# Altium footprint library 5055750771.PcbLib: 1 footprints
Each footprint in its own frame and in the unit in brackets; x right, y up, seen from the top. Pads: shape width x height; smd on the part's side, far side on the other; paste and mask are expansions set on the pad; w line width, h text height; cw(c..) or ccw(c..) is an arc to the next point about the centre after c.
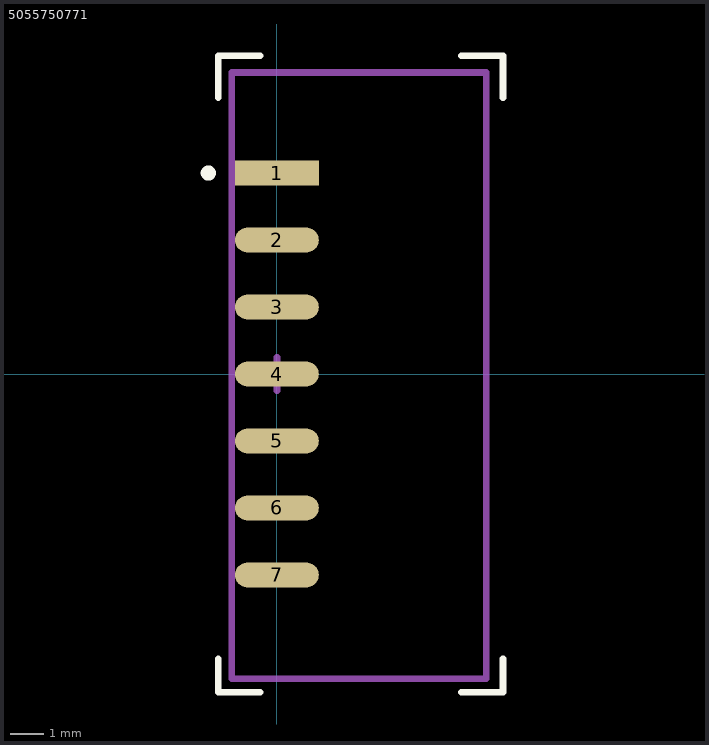
[diagram p0: the footprint, top view; thin cyan lines are the x and y axes]

## 5055750771 [mm]
pads (7):
  rect 2.5x0.75 smd: 1(0,6)
  oval 2.5x0.75 smd: 2(0,4) 3(0,2) 4(0,0) 5(0,-2) 6(0,-4) 7(0,-6)
Top Overlay:
  circle w0.254: c-2.05,6 r0.1
  lines w0.2: -1.75,-8.5 -1.75,-9.5 -0.5,-9.5 ; -1.75,8.25 -1.75,9.5 -0.5,9.5 ; 5.5,-9.5 6.75,-9.5 6.75,-8.5 ; 5.5,9.5 6.75,9.5 6.75,8.25
Mechanical 13:
  lines w0.2: -1.35,-9.1 6.25,-9.1 6.25,9 4.313,9 0.438,9 -1.35,9 -1.35,-9.1
Mechanical 15:
  lines w0.2: -0.5,0 0.5,0 ; 0,0 0,-0.5 0,0.5
3D body "5055750771.stp": height 8.61, standoff 0.01, extent -1.15,-9 6.26,9